# EAGLE library part BQ24120 (library texas_ffmc)
SINGLE-CHIP SWITCHMODE, LI-ION AND LI-POLYMER CHARGE-MANAGEMENT IC WITH ENHANCED EMI PERFORMANCE(bqSWITCHER) Source: www.ti.com .. TI-bq24125.pdf
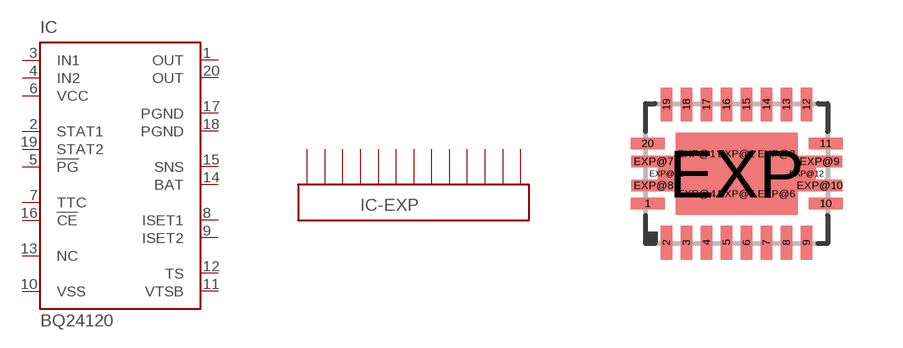
[diagram p45: symbol with the pads of QFN20_3,5X4,5; footprint QFN20_3,5X4,5]

Designator prefix IC; gates G$1=BQ24120-1 -EXP=EXP

## BQ24120 (MPN: BQ24120RHLTG4; OC_FARNELL: 1230453; OC_NEWARK: 12M9386)  [QFN20_3,5X4,5]
1  G$1:OUT  out
2  G$1:STAT1  out
3  G$1:IN1  in
4  G$1:IN2  in
5  G$1:!PG  out
6  G$1:VCC  in
7  G$1:TTC  pas
8  G$1:ISET1
9  G$1:ISET2
10  G$1:VSS  pwr
11  G$1:VTSB  out
12  G$1:TS  in
13  G$1:NC  nc
14  G$1:BAT  in
15  G$1:SNS  in
16  G$1:!CE  in
17  G$1:PGND  in
18  G$1:PGND  in
19  G$1:STAT2  out
20  G$1:OUT  in
EXP  -EXP:7  in
EXP@1  -EXP:1  in
EXP@2  -EXP:2  in
EXP@3  -EXP:3  in
EXP@4  -EXP:4  in
EXP@5  -EXP:5  in
EXP@6  -EXP:6  in
EXP@7  -EXP:8  in
EXP@8  -EXP:9  in
EXP@9  -EXP:10  in
EXP@10  -EXP:11  in
EXP@11  -EXP:12  in
EXP@12  -EXP:13  in

## Footprint QFN20_3,5X4,5 (pad centres in mm)
RHL (R-PQFP-N20) Set in DRC - Same Signals - SMD to SMD and SMD to PAD = 0. Source: www.ti.com .. TI-bq24125.pdf
smd 0.85 x 0.28: 1 -2.225,-0.75; 10 2.225,-0.75; 11 2.225,0.75; 20 -2.225,0.75
smd 0.28 x 0.85: 2 -1.75,-1.725; 3 -1.25,-1.725; 4 -0.75,-1.725; 5 -0.25,-1.725; 6 0.25,-1.725; 7 0.75,-1.725; 8 1.25,-1.725; 9 1.75,-1.725; 12 1.75,1.725; 13 1.25,1.725; 14 0.75,1.725; 15 0.25,1.725; 16 -0.25,1.725; 17 -0.75,1.725; 18 -1.25,1.725; 19 -1.75,1.725
smd 3.05 x 2.05: EXP 0,0
drill 0.2 pad 0.3: EXP@1 -1,0.5; EXP@2 0,0.5; EXP@3 1,0.5; EXP@4 -1,-0.5; EXP@5 0,-0.5; EXP@6 1,-0.5
smd 1.125 x 0.28: EXP@7 -2.075,0.3; EXP@8 -2.075,-0.3; EXP@9 2.075,0.3; EXP@10 2.075,-0.3
smd 0.45 x 0.4: EXP@11 -1.75,0; EXP@12 1.75,0